# EAGLE library part STTS75M2F (library STTS75M2F)
STTS75M2F, 12bit Temperature Sensor +/-3C Serial-I2C 2.7 to 5.5V 8-Pin SOIC Source: Datasheet <https://componentsearchengine.com/Datasheets/1/STTS75M2F.pdf>
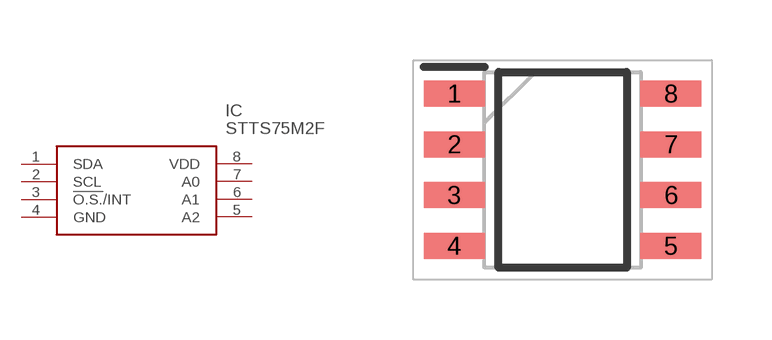
[diagram p0: symbol with the pads of SOIC127P600X175-8N; footprint SOIC127P600X175-8N]

Designator prefix IC

## STTS75M2F (Description: STTS75M2F, 12bit Temperature Sensor +/-3C Serial-I2C 2.7 to 5.5V 8-Pin SOIC; Height: 1.75mm; Manufacturer_Name: STMicroelectronics; Manufacturer_Part_Number: STTS75M2F; Mouser_Part_Number: 511-STTS75M2F; Mouser_Price-Stock: https://www.mouser.com/Search/Refine.aspx?Keyword=511-STTS75M2F)  [SOIC127P600X175-8N]
1  SDA
2  SCL
3  !O.S.!/INT
4  GND
5  A2
6  A1
7  A0
8  VDD

## Footprint SOIC127P600X175-8N (pad centres in mm)
SO 8_
smd 1.525 x 0.65: 1 -2.712,1.905; 2 -2.712,0.635; 3 -2.712,-0.635; 4 -2.712,-1.905; 5 2.712,-1.905; 6 2.712,-0.635; 7 2.712,0.635; 8 2.712,1.905